# Altium schematic symbol library adruino nano.SchLib: 1 symbol
Pins are listed as number, name and electrical type; pins without a type are passive.

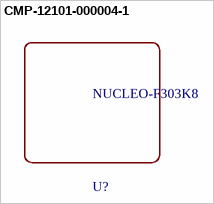
[diagram p0: symbol CMP-12101-000004-1]

## CMP-12101-000004-1
designator U?, comment NUCLEO-F303K8
NUCLEO-32 STM32F303K8 DEV EVAL; Manufacturer: STMicroelectronics; Lead Free: Yes; Device Class L2: Embedded Processors and Controllers; Package: 0; Device Class L1: Integrated Circuits (ICs); Manufacturer Part Number: NUCLEO-F303K8; ComponentLink2Description: Datasheet; Device Class L3: unset; Automotive: No; ComponentLink2URL: https://www.st.com/content/ccc/resource/technical/document/user_manual/e3/0e/88/05/e8/74/43/a0/DM00231744.pdf/files/DM00231744.pdf/jcr:content/translations/en.DM00231744.pdf; Digikey Description: NUCLEO-32 STM32F303K8 DEV EVAL; RoHS: TRUE; Category: IC; Octopart: https://octopart.com/nucleo-f303k8-stmicroelectronics-64723248
footprint FP-NUCLEO-F303K8-MFG